# EAGLE library part ST7789_DISPLAY (library hw6library_Ian)
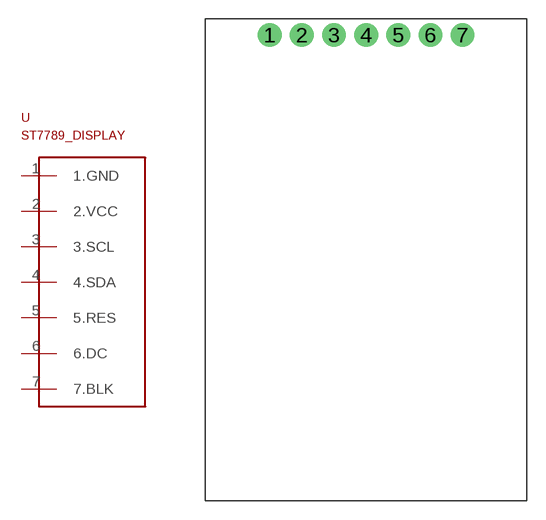
[diagram p10: symbol with the pads of ST7789_DISPLAY; footprint ST7789_DISPLAY]

Designator prefix -

## ST7789_DISPLAY  [ST7789_DISPLAY]
1  1.GND
2  2.VCC
3  3.SCL
4  4.SDA
5  5.RES
6  6.DC
7  7.BLK

## Footprint ST7789_DISPLAY (pad centres in mm)
drill 1.016 pad 1.88: 1 -7.62,0; 2 -5.08,0; 3 -2.54,0; 4 0,0; 5 2.54,0; 6 5.08,0; 7 7.62,0